# Altium schematic symbol library PS,AC-DC,12Vout,3W,LS03-13B12R3.Schlib: 1 symbol
Pins are listed as number, name and electrical type; pins without a type are passive.

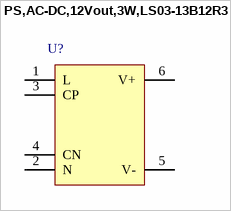
[diagram p0: symbol PS,AC-DC,12Vout,3W,LS03-13B12R3]

## PS,AC-DC,12Vout,3W,LS03-13B12R3
designator U?
pins: 1 L (power), 2 N (power), 3 CP, 4 CN, 5 V- (power), 6 V+ (power)